# Altium schematic symbol library WP-BUCF.SchLib: 6 symbols
Pins are listed as number, name and electrical type; pins without a type are passive.

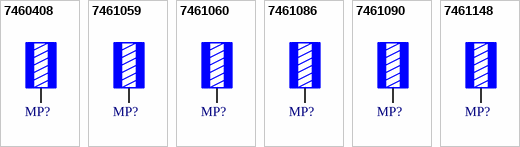
[diagram p0: symbols 7460408 to 7461148]

## 7460408
designator MP?, comment M5 x 6mm  (value not drawn)
WP-BUCF REDCUBE PRESS-FIT with internal thread, circumference, L9W9H6mm, M5 x 6mm, 175A; Manufacturer Part Number: 7460408; Manufacturer: Wurth Elektronik; Surface: Tin; ComponentLink1Description: Website Link; ComponentLink1URL: https://www.we-online.com/redexpert/article/7460408?ad; ComponentLink2Description: Datasheet Link; ComponentLink2URL: https://www.we-online.com/redexpert/spec/7460408?ad; Category: REDCUBE PRESS-FIT; Match Code: WP-BUCF; Mount: Press Fit; Operating Temperature Max: 150°C; Operating Temperature Min: -55°C; Packaging: Bulk; Length: 9mm; Width: 9mm; Height: 6mm; Material: Brass; Number of Pins: 12; Rated Current: 175A; Thread Length: 6mm; Thread Size: M5
footprint 7460408_chemical surface
footprint 7460408_HAL
pins: 1

## 7461059
designator MP?, comment M6 x 13.5mm  (value not drawn)
WP-BUCF REDCUBE PRESS-FIT with internal thread, circumference, L13W13H13.5mm, M6 x 13.5mm, 240A; Manufacturer Part Number: 7461059; Manufacturer: Wurth Elektronik; Surface: Tin; ComponentLink1Description: Website Link; ComponentLink1URL: https://www.we-online.com/redexpert/article/7461059?ad; ComponentLink2Description: Datasheet Link; ComponentLink2URL: https://www.we-online.com/redexpert/spec/7461059?ad; Category: REDCUBE PRESS-FIT; Match Code: WP-BUCF; Mount: Press Fit; Operating Temperature Max: 150°C; Operating Temperature Min: -55°C; Packaging: Bulk; Length: 13mm; Width: 13mm; Height: 13.5mm; Material: Brass; Number of Pins: 16; Rated Current: 240A; Thread Length: 13.5mm; Thread Size: M6
footprint 7461059_chemical surface
footprint 7461059_HAL
pins: 1

## 7461060
designator MP?, comment M10 x 17.5mm  (value not drawn)
WP-BUCF REDCUBE PRESS-FIT with internal thread, circumference, L16W16H17.5mm, M10 x 17.5mm, 350A; Manufacturer Part Number: 7461060; Manufacturer: Wurth Elektronik; Surface: Tin; ComponentLink1Description: Website Link; ComponentLink1URL: https://www.we-online.com/redexpert/article/7461060?ad; ComponentLink2Description: Datasheet Link; ComponentLink2URL: https://www.we-online.com/redexpert/spec/7461060?ad; Category: REDCUBE PRESS-FIT; Match Code: WP-BUCF; Mount: Press Fit; Operating Temperature Max: 150°C; Operating Temperature Min: -55°C; Packaging: Bulk; Length: 16mm; Width: 16mm; Height: 17.5mm; Material: Brass; Number of Pins: 20; Rated Current: 350A; Thread Length: 17.5mm; Thread Size: M10
footprint 7461060_chemical surface
footprint 7461060_HAL
pins: 1

## 7461086
designator MP?, comment M4 x 6mm  (value not drawn)
WP-BUCF REDCUBE PRESS-FIT with internal thread, circumference, L9W9H6mm, M4 x 6mm, 175A; Manufacturer Part Number: 7461086; Manufacturer: Wurth Elektronik; Surface: Tin; ComponentLink1Description: Website Link; ComponentLink1URL: https://www.we-online.com/redexpert/article/7461086?ad; ComponentLink2Description: Datasheet Link; ComponentLink2URL: https://www.we-online.com/redexpert/spec/7461086?ad; Category: REDCUBE PRESS-FIT; Match Code: WP-BUCF; Mount: Press Fit; Operating Temperature Max: 150°C; Operating Temperature Min: -55°C; Packaging: Bulk; Length: 9mm; Width: 9mm; Height: 6mm; Material: Brass; Number of Pins: 12; Rated Current: 175A; Thread Length: 6mm; Thread Size: M4
footprint 7461086_chemical surface
footprint 7461086_HAL
pins: 1

## 7461090
designator MP?, comment M8 x 13.5mm  (value not drawn)
WP-BUCF REDCUBE PRESS-FIT with internal thread, circumference, L16W16H13.5mm, M8 x 13.5mm, 350A; Manufacturer Part Number: 7461090; Manufacturer: Wurth Elektronik; Surface: Tin; ComponentLink1Description: Website Link; ComponentLink1URL: https://www.we-online.com/redexpert/article/7461090?ad; ComponentLink2Description: Datasheet Link; ComponentLink2URL: https://www.we-online.com/redexpert/spec/7461090?ad; Category: REDCUBE PRESS-FIT; Match Code: WP-BUCF; Mount: Press Fit; Operating Temperature Max: 150°C; Operating Temperature Min: -55°C; Packaging: Bulk; Length: 16mm; Width: 16mm; Height: 13.5mm; Material: Brass; Number of Pins: 20; Rated Current: 350A; Thread Length: 13.5mm; Thread Size: M8
footprint 7461090_chemical surface
footprint 7461090_HAL
pins: 1

## 7461148
designator MP?, comment M2.5 x 6mm  (value not drawn)
WP-BUCF REDCUBE PRESS-FIT with internal thread, circumference, L7W7H6mm, M2.5 x 6mm, 130A; Manufacturer Part Number: 7461148; Manufacturer: Wurth Elektronik; Surface: Tin; ComponentLink1Description: Website Link; ComponentLink1URL: https://www.we-online.com/redexpert/article/7461148?ad; ComponentLink2Description: Datasheet Link; ComponentLink2URL: https://www.we-online.com/redexpert/spec/7461148?ad; Category: REDCUBE PRESS-FIT; Match Code: WP-BUCF; Mount: Press Fit; Operating Temperature Max: 150°C; Operating Temperature Min: -55°C; Packaging: Bulk; Length: 7mm; Width: 7mm; Height: 6mm; Material: Brass; Number of Pins: 8; Rated Current: 130A; Thread Length: 6mm; Thread Size: M2.5
footprint 7461148_chemical surface
footprint 7461148_HAL
pins: 1